# Altium footprint library HDR.PcbLib: 133 footprints (part 1 of 9)
Each footprint in its own frame and in the unit in brackets; x right, y up, seen from the top. Pads: shape width x height; smd on the part's side, far side on the other; paste and mask are expansions set on the pad; w line width, h text height; cw(c..) or ccw(c..) is an arc to the next point about the centre after c.
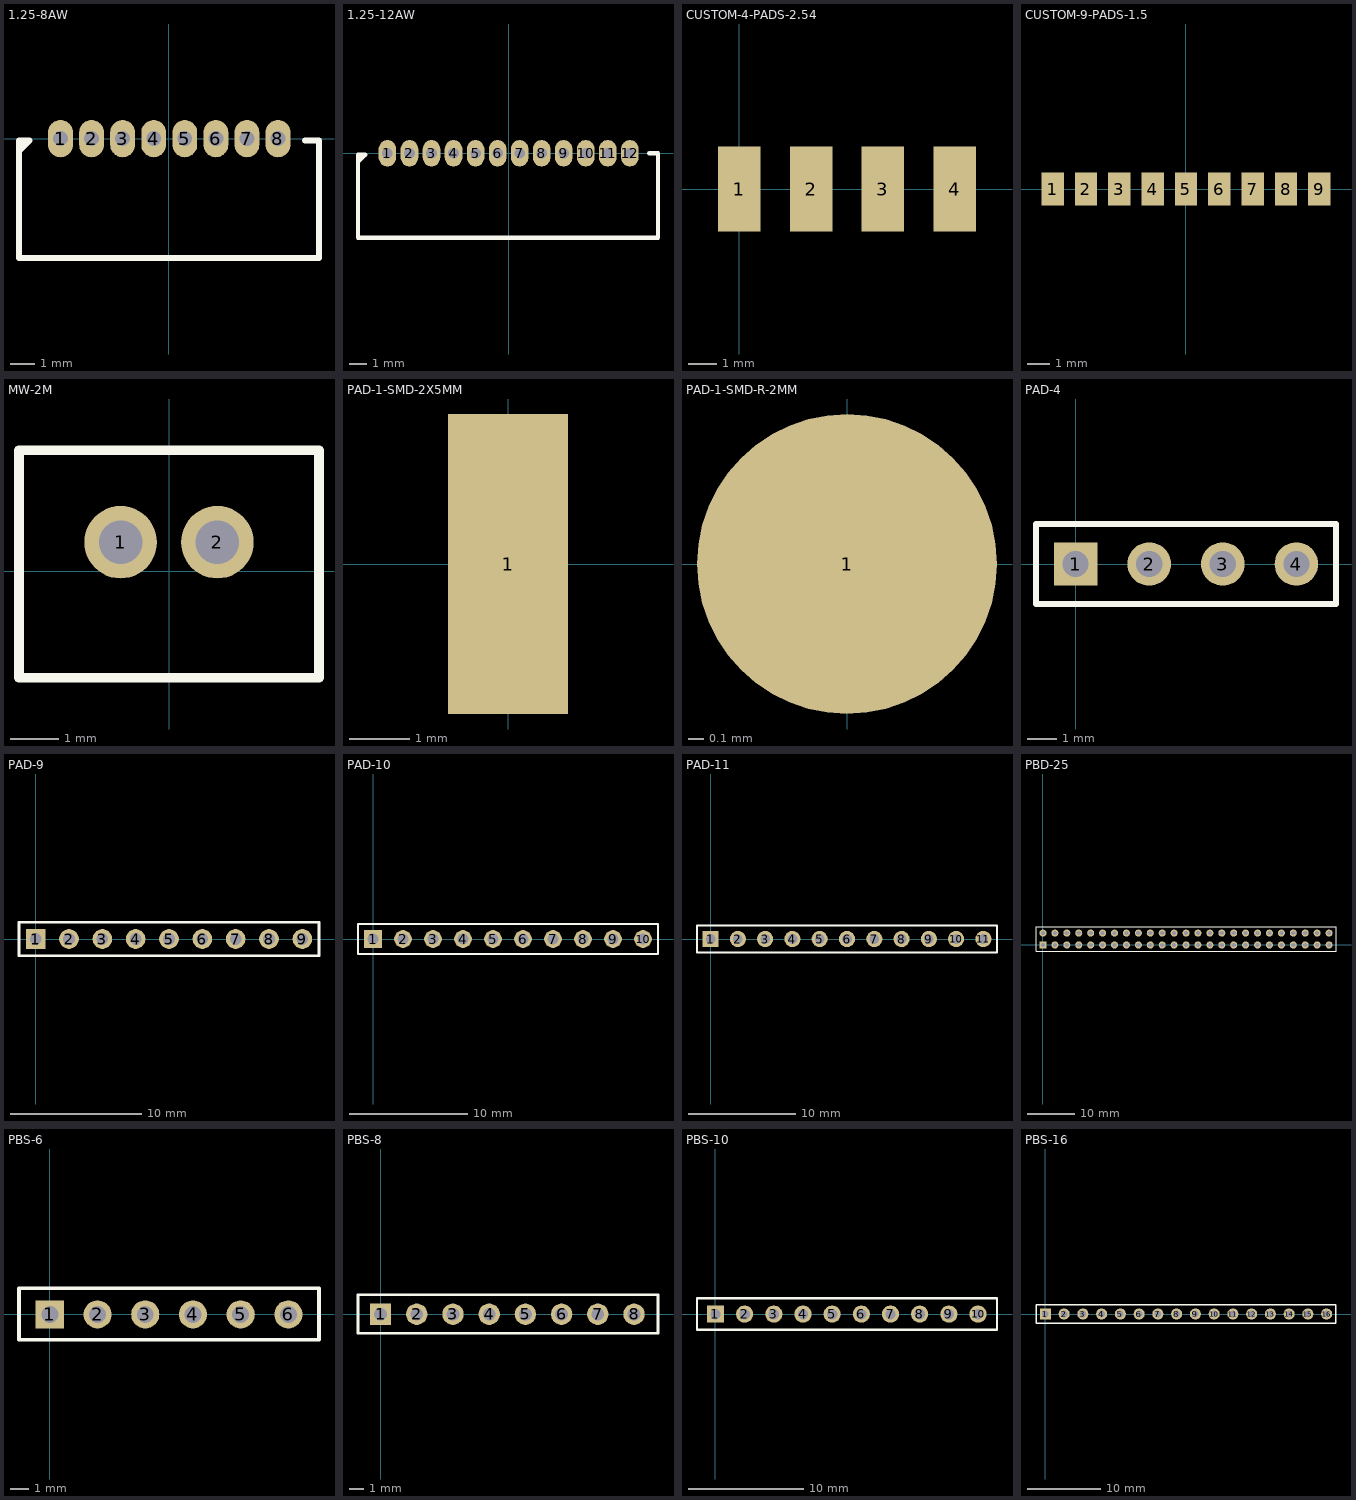
[diagram p0: the footprints below, top view; thin cyan lines are the x and y axes]

## 1.25-8AW [mm] "Connector; 8 Positions; Right Angle"
height 3.5
pads (8):
  oval 1x1.5 hole 0.6: 1(-4.35,0) 2(-3.1,0) 3(-1.85,0) 4(-0.6,0) 5(0.65,0) 6(1.9,0) 7(3.15,0) 8(4.4,0)
Top Overlay:
  lines w0.254: -6.02,-0.493 -5.597,-0.07 -6.02,-0.07 -6.02,-4.8 6.05,-4.8 6.05,-0.07 5.5,-0.07
3D body "47589.stp": height 3.68, standoff -2.22, extent -5.825,-4.5 5.825,0.9

## 1.25-12AW [mm] "Connector; 12 Positions; Right Angle"
height 3.5
pads (12):
  oval 1x1.5 hole 0.6: 1(-6.875,0) 2(-5.625,0) 3(-4.375,0) 4(-3.125,0) 5(-1.875,0) 6(-0.625,0) 7(0.625,0) 8(1.875,0) 9(3.125,0) 10(4.375,0) 11(5.625,0) 12(6.875,0)
Top Overlay:
  lines w0.254: -8.545,-0.493 -8.122,-0.07 -8.545,-0.07 -8.545,-4.8 8.475,-4.8 8.475,0 7.975,0

## CUSTOM-4-PADS-2.54 [mm] "Connector; Header; 4 Position"
pads (4):
  rect 1.5x3 smd: 1(0,0) 2(2.54,0) 3(5.08,0) 4(7.62,0)

## CUSTOM-9-PADS-1.5 [mm] "9 Positions"
pads (9):
  rect 1x1.5 smd: 1(-6,0) 2(-4.5,0) 3(-3,0) 4(-1.5,0) 5(0,0) 6(1.5,0) 7(3,0) 8(4.5,0) 9(6,0)

## MW-2M [mm] "Connector; Header; 2 Position"
height 6
pads (2):
  round 1.5 hole 0.9: 1(-1,0.6) 2(1,0.6)
Top Overlay:
  lines w0.2: -3.1,-2.2 -3.1,2.5 3.1,2.5 3.1,-2.2 -3.1,-2.2
3D body "User Library-mw-2m-1.step": height 6, standoff -3.2, extent -3,-2.1 3,2.4

## PAD-1-SMD-2X5MM [mm] "Connector; Plug"
pads (1):
  rect 2x5 smd: 1(0,0)

## PAD-1-SMD-R-2MM [mm] "Connector; Plug"
pads (1):
  round 2 smd: 1(0,0)

## PAD-4 [mm] "Connector; Pads 4 Position"
pads (4):
  rect 1.5x1.5 hole 0.9: 1(0,0)
  round 1.5 hole 0.9: 2(2.54,0) 3(5.08,0) 4(7.62,0)
Top Overlay:
  lines w0.2: -1.37,-1.38 -1.37,1.38 8.99,1.38 8.99,-1.38 -1.37,-1.38

## PAD-9 [mm] "Connector; Pads; 9 Position"
pads (9):
  rect 1.5x1.5 hole 0.9: 1(0,0)
  round 1.5 hole 0.9: 2(2.54,0) 3(5.08,0) 4(7.62,0) 5(10.16,0) 6(12.7,0) 7(15.24,0) 8(17.78,0) 9(20.32,0)
Top Overlay:
  lines w0.2: -1.27,-1.27 -1.27,1.27 21.59,1.27 21.59,-1.27 -1.27,-1.27

## PAD-10 [mm] "Connector; Pads; 10 Position"
pads (10):
  rect 1.5x1.5 hole 0.9: 1(0,0)
  round 1.5 hole 0.9: 2(2.54,0) 3(5.08,0) 4(7.62,0) 5(10.16,0) 6(12.7,0) 7(15.24,0) 8(17.78,0) 9(20.32,0) 10(22.86,0)
Top Overlay:
  lines w0.2: -1.27,-1.27 -1.27,1.27 0.635,1.27 24.13,1.27 24.13,-1.27 -1.27,-1.27

## PAD-11 [mm] "Connector; Pads; 11 Position"
pads (11):
  rect 1.5x1.5 hole 0.9: 1(0,0)
  round 1.5 hole 0.9: 2(2.54,0) 3(5.08,0) 4(7.62,0) 5(10.16,0) 6(12.7,0) 7(15.24,0) 8(17.78,0) 9(20.32,0) 10(22.86,0) 11(25.4,0)
Top Overlay:
  lines w0.2: -1.27,-1.27 26.67,-1.27 26.67,1.27 0.635,1.27 -1.27,1.27 -1.27,-1.27

## PBD-25 [mm] "Connector; Header; 25x2 Position"
pads (50):
  rect 1.5x1.5 hole 0.9: 1(0,0)
  round 1.5 hole 0.9: 2(0,2.54) 3(2.54,0) 4(2.54,2.54) 5(5.08,0) 6(5.08,2.54) 7(7.62,0) 8(7.62,2.54) 9(10.16,0) 10(10.16,2.54) 11(12.7,0) 12(12.7,2.54) 13(15.24,0) 14(15.24,2.54) 15(17.78,0) 16(17.78,2.54) 17(20.32,0) 18(20.32,2.54) 19(22.86,0) 20(22.86,2.54) 21(25.4,0) 22(25.4,2.54) 23(27.94,0) 24(27.94,2.54) 25(30.48,0) 26(30.48,2.54) 27(33.02,0) 28(33.02,2.54) 29(35.56,0) 30(35.56,2.54) 31(38.1,0) 32(38.1,2.54) 33(40.64,0) 34(40.64,2.54) 35(43.18,0) 36(43.18,2.54) 37(45.72,0) 38(45.72,2.54) 39(48.26,0) 40(48.26,2.54) 41(50.8,0) 42(50.8,2.54) 43(53.34,0) 44(53.34,2.54) 45(55.88,0) 46(55.88,2.54) 47(58.42,0) 48(58.42,2.54) 49(60.96,0) 50(60.96,2.54)
Top Overlay:
  lines w0.2: -1.49,-1.33 62.44,-1.33 62.44,3.88 -1.49,3.88 -1.49,-1.33
3D body "female_header_a-bl254-dg-g50d.stp": height 8.5, standoff -3.2, extent -1.395,-1.23 62.355,3.77

## PBS-6 [mm] "Connector; Header; 6 Position"
height 8.5
pads (6):
  rect 1.5x1.5 hole 0.9: 1(0,0)
  round 1.5 hole 0.9: 2(2.54,0) 3(5.08,0) 4(7.62,0) 5(10.16,0) 6(12.7,0)
Top Overlay:
  lines w0.2: -1.64,-1.35 14.33,-1.35 14.33,1.4 -1.64,1.4 -1.64,-1.35
3D body "PBS-6.step": height 8.6, standoff -2.9, extent -1.52,-1.23 14.22,1.27

## PBS-8 [mm] "Connector; Header; 8 Position"
height 8.5
pads (8):
  rect 1.5x1.5 hole 0.9: 1(0,0)
  round 1.5 hole 0.9: 2(2.54,0) 3(5.08,0) 4(7.62,0) 5(10.16,0) 6(12.7,0) 7(15.24,0) 8(17.78,0)
Top Overlay:
  lines w0.2: -1.58,-1.33 19.46,-1.33 19.46,1.36 -1.58,1.36 -1.58,-1.33
3D body "PBS-8.step": height 8.6, standoff -2.9, extent -1.47,-1.25 19.35,1.25

## PBS-10 [mm] "Connector; Header; 10 Position"
height 8.5
pads (10):
  rect 1.5x1.5 hole 0.9: 1(0,0)
  round 1.5 hole 0.9: 2(2.54,0) 3(5.08,0) 4(7.62,0) 5(10.16,0) 6(12.7,0) 7(15.24,0) 8(17.78,0) 9(20.32,0) 10(22.86,0)
Top Overlay:
  lines w0.2: -1.61,-1.35 24.51,-1.35 24.51,1.37 -1.61,1.37 -1.61,-1.35
3D body "PBS-10.step": height 8.6, standoff -2.9, extent -1.5,-1.24 24.4,1.26

## PBS-16 [mm] "Connector; Header; 16 Position"
height 8.5
pads (16):
  rect 1.5x1.5 hole 0.9: 1(0,0)
  round 1.5 hole 0.9: 2(2.54,0) 3(5.08,0) 4(7.62,0) 5(10.16,0) 6(12.7,0) 7(15.24,0) 8(17.78,0) 9(20.32,0) 10(22.86,0) 11(25.4,0) 12(27.94,0) 13(30.48,0) 14(33.02,0) 15(35.56,0) 16(38.1,0)
Top Overlay:
  lines w0.2: -1.27,-1.27 -1.27,1.27 0.635,1.27 39.37,1.27 39.37,-1.27 -1.27,-1.27
3D body "User Library-pbs-16.STEP": height 8.27, standoff -2.73, extent -1.264,-1.19 39.376,1.35